# Altium footprint library CAPC_2220_M5650.PcbLib: 1 footprints
Each footprint in its own frame and in the unit in brackets; x right, y up, seen from the top. Pads: shape width x height; smd on the part's side, far side on the other; paste and mask are expansions set on the pad; w line width, h text height; cw(c..) or ccw(c..) is an arc to the next point about the centre after c.
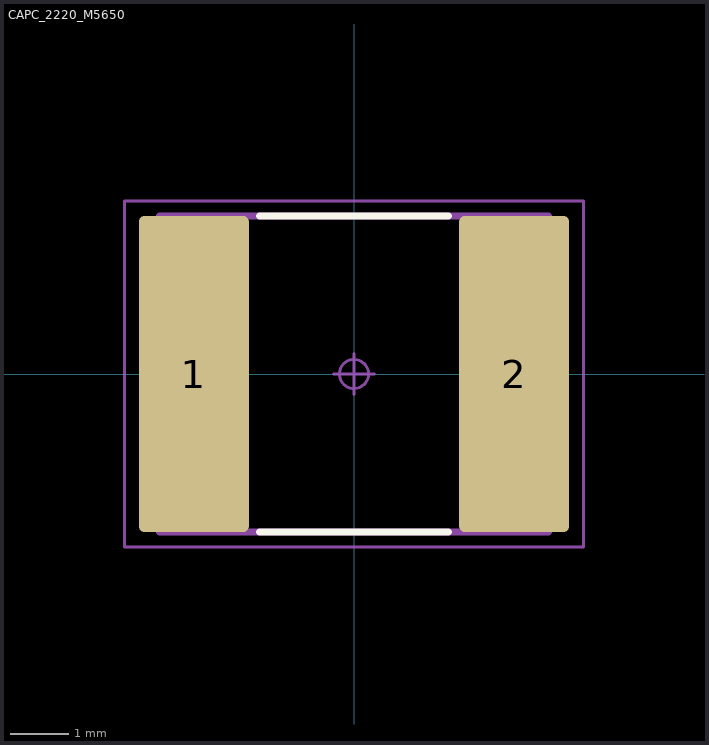
[diagram p0: the footprint, top view; thin cyan lines are the x and y axes]

## CAPC_2220_M5650 [mm] "Capacitor, Chip; 5.90 mm L X 5.00 mm W X 5.40 mm H body"
pads (2):
  rrect10% 1.88x5.41 smd: 1(-2.74,0) 2(2.74,0)
Top Overlay:
  lines w0.12: -1.62,-2.7 1.62,-2.7 ; -1.62,2.7 1.62,2.7
Mechanical 11:
  lines w0.12: -3.33,-2.7 3.33,-2.7 3.33,2.7 -3.33,2.7 -3.33,-2.7
  text ".Designator" at -3.648,-0.446 h2
Mechanical 15:
  circle w0.05: c0,0 r0.25
  lines w0.05: -0.35,0 0.35,0 ; 0,-0.35 0,0.35 ; -3.93,-2.96 3.93,-2.96 3.93,2.96 -3.93,2.96 -3.93,-2.96
3D body "CAPC_2220_M5650.STEP": height 5.4, standoff 0, extent -3.325,-2.7 3.325,2.7